# Altium footprint library 专用封装.PcbLib: 24 footprints (part 1 of 2)
Each footprint in its own frame and in the unit in brackets; x right, y up, seen from the top. Pads: shape width x height; smd on the part's side, far side on the other; paste and mask are expansions set on the pad; w line width, h text height; cw(c..) or ccw(c..) is an arc to the next point about the centre after c.
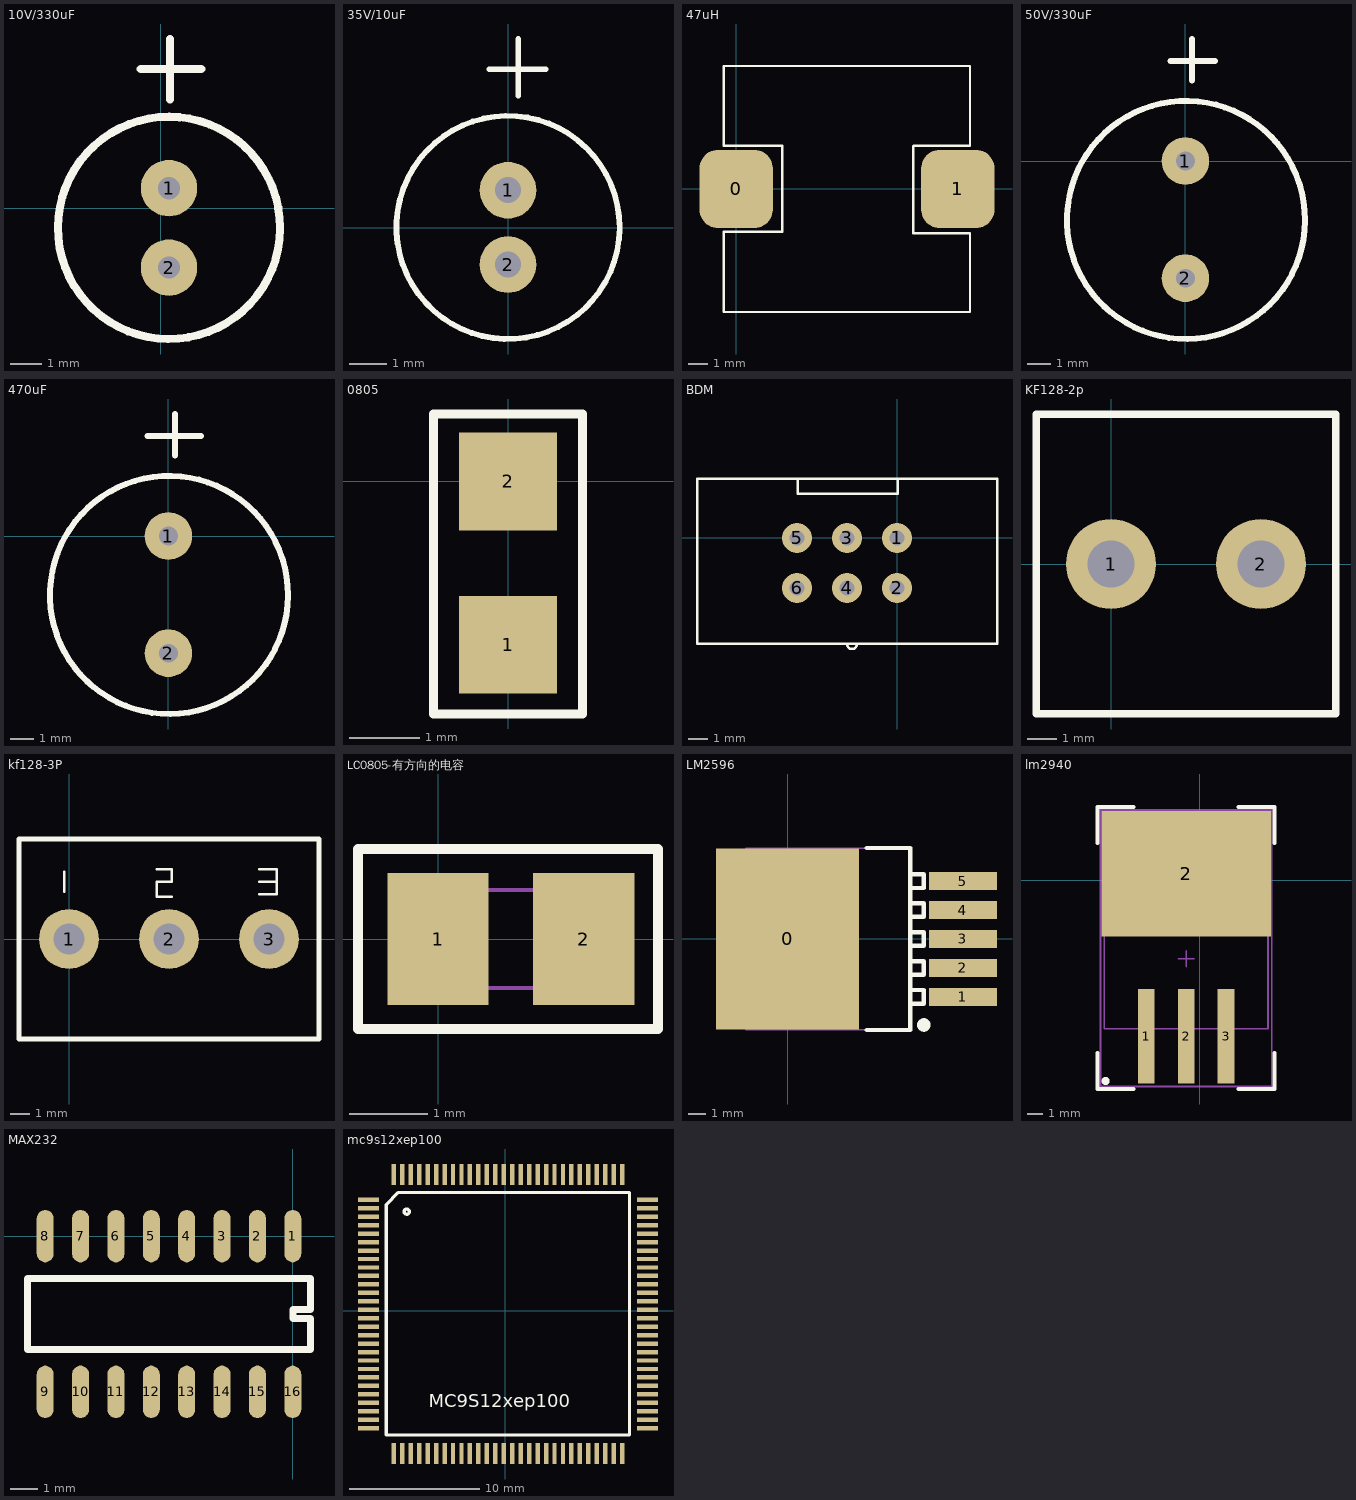
[diagram p0: the footprints below, top view; thin cyan lines are the x and y axes]

## 10V/330uF [mil]
pads (2):
  round 70 hole 27.56: 1(10,25) 2(10,-73.43)
Top Overlay:
  lines w10: -25,173 50,173 ; 11,135 11,169 11,210 ; 147.79,-25.57 cw(c10,-24.21) 147.8,-24.21

## 35V/10uF [mil]
pads (2):
  round 60 hole 27.56: 1(0,40) 2(0,-38.74)
Top Overlay:
  lines w6: -20,168 40,168 ; 11,140 11,169 11,200 ; 118.1,-0.53 cw(c0,0.63) 118.11,0.63

## 47uH [mm]
pads (2):
  rrect50% 3.81x4.076 smd mask+0: 0(0,0) 1(11.534,0)
Top Overlay:
  lines w0.127: -0.635,-6.402 12.167,-6.402 12.167,-2.313 9.22,-2.313 9.22,2.234 9.246,2.259 12.167,2.259 12.167,6.4 -0.635,6.4 -0.635,2.259 2.388,2.259 2.388,-2.236 -0.635,-2.236 -0.635,-6.402

## 50V/330uF [mil]
pads (2):
  round 80 hole 31.5: 1(0,0) 2(0,-196.85)
Top Overlay:
  lines w10: -25,168 50,168 ; 11,135 11,169 11,205 ; 201,-100.97 cw(c1,-99) 201.01,-99

## 470uF [mil]
pads (2):
  round 80 hole 31.5: 1(0,0) 2(0,-196.85)
Top Overlay:
  lines w10: -35,168 55,168 ; 11,135 11,169 11,205 ; 201,-100.97 cw(c1,-99) 201.01,-99

## 0805 [mil]
pads (2):
  rect 55x55 smd: 1(0,-92) 2(0,0)
Top Overlay:
  lines w5: -42,-131 42,-131 42,-30 42,38 -42,38 -42,-29 -42,-131

## BDM [mil]
pads (6):
  round 60 hole 30: 1(0,0) 2(0,-100) 3(-100,0) 4(-100,-100) 5(-200,0) 6(-200,-100)
Top Overlay:
  lines w5: -199,118 -199,88 1,88 1,118 ; -100,-212 ccw(c-89.98,-212) -79.96,-212 ; -400,-212 -400,118 200,118 200,-212 -400,-212

## KF128-2p [mil]
pads (2):
  round 120 hole 62.99: 1(0,0) 2(200,0)
Top Overlay:
  lines w10: -100,-200 300,-200 300,200 -100,200 -100,-200

## kf128-3P [mil]
pads (3):
  round 120 hole 62.99: 1(0,0) 2(200,0) 3(400,0)
Top Overlay:
  lines w5: -10,95 -10,135 ; 175,140 205,140 205,115 175,115 175,85 205,85 ; 380,90 415,90 415,115 ; 380,115 415,115 ; 380,140 415,140 415,115
  lines w10: -100,-200 500,-200 500,200 -100,200 -100,-200

## LC0805-有方向的电容 [mm]
pads (2):
  rect 1.287x1.673 smd: 1(0,0) 2(1.85,0)
Top Overlay:
  lines w0.127: -1.016,-1.143 2.794,-1.143 2.794,1.143 -1.016,1.143 -1.016,-1.143
Mechanical 13:
  lines w0.05: -0.11,-0.625 1.89,-0.625 1.89,0.625 -0.11,0.625 -0.11,-0.625

## LM2596 [mm]
pads (6):
  rect 8.4x10.65 smd: 0(0,0)
  rect 4x1.05 smd: 1(10.3,-3.4) 2(10.3,-1.7) 3(10.3,0) 4(10.3,1.7) 5(10.3,3.4)
Top Overlay:
  circle w0.4: c8,-5.05 r0.2
  lines w0.254: 4.65,-5.35 7.2,-5.35 7.2,5.35 4.65,5.35 ; 7.2,-3 8,-3 8,-3.8 7.3,-3.8 ; 7.2,-1.3 8,-1.3 8,-2.1 7.3,-2.1 ; 7.2,0.4 8,0.4 8,-0.4 7.3,-0.4 ; 7.2,2.1 8,2.1 8,1.3 7.3,1.3 ; 7.2,3.8 8,3.8 8,3 7.3,3
Mechanical 13:
  lines w0.1: -2.45,-5.325 -2.45,5.325 7.2,5.325 7.2,-5.325 -2.45,-5.325

## lm2940 [mm]
pads (4):
  rect 1.07x6 smd: 1(-3.404,-9.943) 2(-0.864,-9.943) 3(1.676,-9.943)
  rect 10.8x8 smd: 2(-0.864,0.392)
Top Overlay:
  circle w0.25: c-5.994,-12.788 r0.125
  lines w0.254: -6.502,-11.012 -6.502,-13.298 -4.216,-13.298 ; -6.502,2.348 -6.502,4.634 -4.216,4.634 ; 2.464,-13.298 4.75,-13.298 4.75,-11.012 ; 2.464,4.634 4.75,4.634 4.75,2.348
Mechanical 13:
  lines w0.1: -6.069,-9.463 4.341,-9.463 4.341,-0.573 -6.069,-0.573 -6.069,-9.463
Mechanical 15:
  lines w0.1: -6.319,-13.146 -6.319,4.457 4.591,4.457 4.591,-13.146 ; -1.364,-5.018 -0.364,-5.018 ; -0.864,-5.518 -0.864,-4.518
  lines w0.127: -6.319,-13.146 4.591,-13.146
3D body: height 4.65, standoff 0.1, extent -6.069,-9.463 4.341,-0.573

## MAX232 [mil]
pads (16):
  oval 24x74 smd: 1(0,0) 2(-50,0) 3(-100,0) 4(-150,0) 5(-200,0) 6(-250,0) 7(-300,0) 8(-350,0) 9(-350,-220) 10(-300,-220) 11(-250,-220) 12(-200,-220) 13(-150,-220) 14(-100,-220) 15(-50,-220) 16(0,-220)
Top Overlay:
  lines w10: -375,-160 -375,-60 25,-60 25,-103.75 0,-103.75 0,-116.25 25,-116.25 25,-160 -375,-160

## mc9s12xep100 [mm]
pads (112):
  rect 1.6x0.34 smd: 1(-10.511,8.528) 2(-10.511,7.878) 3(-10.511,7.228) 4(-10.511,6.578) 5(-10.511,5.928) 6(-10.511,5.278) 7(-10.511,4.628) 8(-10.511,3.978) 9(-10.511,3.328) 10(-10.511,2.678) 11(-10.511,2.028) 12(-10.511,1.378) 13(-10.511,0.728) 14(-10.511,0.078) 15(-10.511,-0.572) 16(-10.511,-1.222) 17(-10.511,-1.872) 18(-10.511,-2.522) 19(-10.511,-3.172) 20(-10.511,-3.822) 21(-10.511,-4.472) 22(-10.511,-5.122) 23(-10.511,-5.772) 24(-10.511,-6.422) 25(-10.511,-7.072) 26(-10.511,-7.722) 27(-10.511,-8.372) 28(-10.511,-9.022) 57(10.939,-9.022) 58(10.939,-8.372) 59(10.939,-7.722) 60(10.939,-7.072) 61(10.939,-6.422) 62(10.939,-5.772) 63(10.939,-5.122) 64(10.939,-4.472) 65(10.939,-3.822) 66(10.939,-3.172) 67(10.939,-2.522) 68(10.939,-1.872) 69(10.939,-1.222) 70(10.939,-0.572) 71(10.939,0.078) 72(10.939,0.728) 73(10.939,1.378) 74(10.939,2.028) 75(10.939,2.678) 76(10.939,3.328) 77(10.939,3.978) 78(10.939,4.628) 79(10.939,5.278) 80(10.939,5.928) 81(10.939,6.578) 82(10.939,7.228) 83(10.939,7.878) 84(10.939,8.528)
  rect 0.34x1.6 smd: 29(-8.561,-10.972) 30(-7.911,-10.972) 31(-7.261,-10.972) 32(-6.611,-10.972) 33(-5.961,-10.972) 34(-5.311,-10.972) 35(-4.661,-10.972) 36(-4.011,-10.972) 37(-3.361,-10.972) 38(-2.711,-10.972) 39(-2.061,-10.972) 40(-1.411,-10.972) 41(-0.761,-10.972) 42(-0.111,-10.972) 43(0.539,-10.972) 44(1.189,-10.972) 45(1.839,-10.972) 46(2.489,-10.972) 47(3.139,-10.972) 48(3.789,-10.972) 49(4.439,-10.972) 50(5.089,-10.972) 51(5.739,-10.972) 52(6.389,-10.972) 53(7.039,-10.972) 54(7.689,-10.972) 55(8.339,-10.972) 56(8.989,-10.972) 85(8.989,10.478) 86(8.339,10.478) 87(7.689,10.478) 88(7.039,10.478) 89(6.389,10.478) 90(5.739,10.478) 91(5.089,10.478) 92(4.439,10.478) 93(3.789,10.478) 94(3.139,10.478) 95(2.489,10.478) 96(1.839,10.478) 97(1.189,10.478) 98(0.539,10.478) 99(-0.111,10.478) 100(-0.761,10.478) 101(-1.411,10.478) 102(-2.061,10.478) 103(-2.711,10.478) 104(-3.361,10.478) 105(-4.011,10.478) 106(-4.661,10.478) 107(-5.311,10.478) 108(-5.961,10.478) 109(-6.611,10.478) 110(-7.261,10.478) 111(-7.911,10.478) 112(-8.561,10.478)
Top Overlay:
  circle w0.25: c-7.566,7.62 r0.2
  lines w0.25: -9.144,-9.55 -9.144,8.153 -8.204,9.093 9.55,9.093 9.55,-9.55 -9.144,-9.55
  text "MC9S12xep100" at -5.867,-7.417 h1.02

## PCBComponent_1 [mm]

## PCBComponent_1 - duplicate1 [mm]